# EAGLE library part E28F320J3 (library IC)
Intel E28F256J3 Strata Flash Memory also pin compatable with Micron MT28F256J3RG.
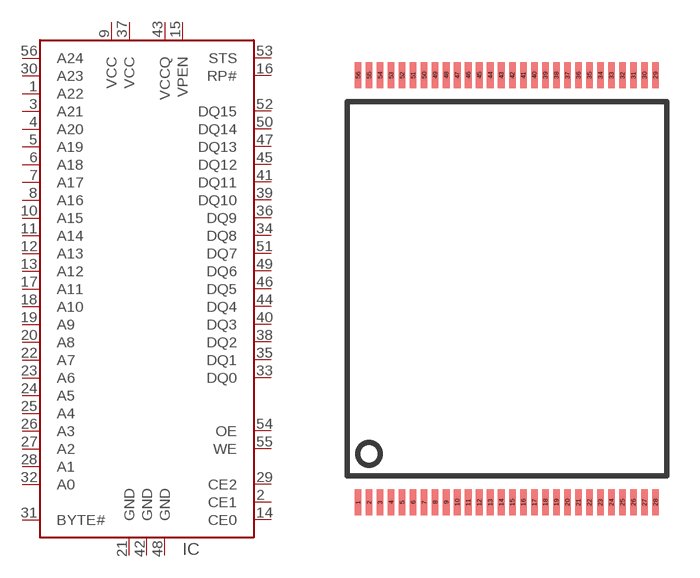
[diagram p56: symbol with the pads of TSOP56-I; footprint TSOP56-I]

Designator prefix IC

## E28F320J3-TSOP56  [TSOP56-I]
1  A22
2  CE1
3  A21
4  A20
5  A19
6  A18
7  A17
8  A16
9  VCC  pwr
10  A15
11  A14
12  A13
13  A12
14  CE0
15  VPEN  pwr
16  RP#
17  A11
18  A10
19  A9
20  A8
21  GND  pwr
22  A7
23  A6
24  A5
25  A4
26  A3
27  A2
28  A1
29  CE2
30  A23
31  BYTE#
32  A0
33  DQ0
34  DQ8
35  DQ1
36  DQ9
37  VCC  pwr
38  DQ2
39  DQ10
40  DQ3
41  DQ11
42  GND  pwr
43  VCCQ  pwr
44  DQ4
45  DQ12
46  DQ5
47  DQ13
48  GND  pwr
49  DQ6
50  DQ14
51  DQ7
52  DQ15
53  STS
54  OE
55  WE
56  A24

## Footprint TSOP56-I (pad centres in mm)
smd 0.3 x 1.2: 1 -6.75,-9.7; 2 -6.25,-9.7; 3 -5.75,-9.7; 4 -5.25,-9.7; 5 -4.75,-9.7; 6 -4.25,-9.7; 7 -3.75,-9.7; 8 -3.25,-9.7; 9 -2.75,-9.7; 10 -2.25,-9.7; 11 -1.75,-9.7; 12 -1.25,-9.7; 13 -0.75,-9.7; 14 -0.25,-9.7; 15 0.25,-9.7; 16 0.75,-9.7; 17 1.25,-9.7; 18 1.75,-9.7; 19 2.25,-9.7; 20 2.75,-9.7; 21 3.25,-9.7; 22 3.75,-9.7; 23 4.25,-9.7; 24 4.75,-9.7; 25 5.25,-9.7; 26 5.75,-9.7; 27 6.25,-9.7; 28 6.75,-9.7; 29 6.75,9.7; 30 6.25,9.7; 31 5.75,9.7; 32 5.25,9.7; 33 4.75,9.7; 34 4.25,9.7; 35 3.75,9.7; 36 3.25,9.7; 37 2.75,9.7; 38 2.25,9.7; 39 1.75,9.7; 40 1.25,9.7; 41 0.75,9.7; 42 0.25,9.7; 43 -0.25,9.7; 44 -0.75,9.7; 45 -1.25,9.7; 46 -1.75,9.7; 47 -2.25,9.7; 48 -2.75,9.7; 49 -3.25,9.7; 50 -3.75,9.7; 51 -4.25,9.7; 52 -4.75,9.7; 53 -5.25,9.7; 54 -5.75,9.7; 55 -6.25,9.7; 56 -6.75,9.7